# Altium schematic symbol library ST_bluetooth.SchLib: 1 symbol
Pins are listed as number, name and electrical type; pins without a type are passive.

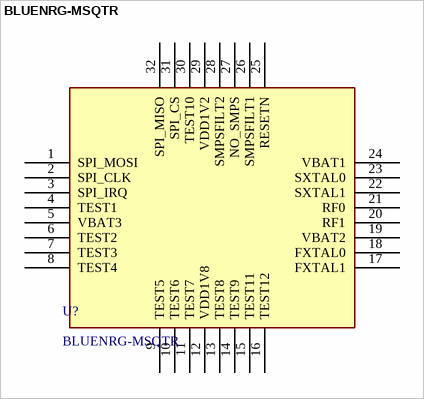
[diagram p0: symbol BLUENRG-MSQTR]

## BLUENRG-MSQTR
designator U?
IC RF TXRX+MCU BLUETOOTH 32VFQFN; Manufacturer: STMicroelectronics; Core: ARM Cortex M0; Operating Frequency: 2.4 GHz; Data Bus Width: 32 bit; Program Memory Size: 64 kB; Data RAM Size: 12 kB; Maximum Clock Frequency: 32 MHz; ADC Resolution: No ADC; Operating Supply Voltage: 1.7 V to 3.6 V; Data RAM Type: RAM; Interface Type: SPI; Number of Timers: 1 Timer; Output Power: 8 dBm; Program Memory Type: Flash; Supply Voltage - Max: 3.6 V; Supply Voltage - Min: 1.7 V; Unit Weight: 0.006653 oz; Supplier 1: Digi-Key; Manufacturer Part Number: BLUENRG-MSQTR; Stock 1: 14966; Pricing 1: 1=3.39, 10=3.025, 25=2.7224, 100=2.4805, 250=2.2385, 500=2.0086, 1000=1.925 (USD); Product Category: RF Microcontrollers - MCU; RoHS: True; Maximum Operating Temperature: + 85 C; Package / Case: QFN-32; Mounting Style: SMD/SMT; Packaging: Reel; Brand: STMicroelectronics; Minimum Operating Temperature: - 40 C; Factory Pack Quantity: 3000; ComponentLink1URL: http://www.mouser.com/ds/2/389/bluenrg-ms-954473.pdf?src-supplier=Mouser; ComponentLink1Description: http://www.mouser.com/ds/2/389/bluenrg-ms-954473.pdf?src-supplier=Mouser; ComponentLink2URL: http://www.st.com/st-web-ui/static/active/en/resource/technical/document/datasheet/DM00141263.pdf?src-supplier=Avnet; ComponentLink2Description: http://www.st.com/st-web-ui/static/active/en/resource/technical/document/datasheet/DM00141263.pdf?src-supplier=Avnet; ComponentLink3URL: http://www.st.com/content/ccc/resource/technical/document/programming_manual/1c/7e/d3/a6/d0/52/4a/35/DM00141271.pdf/files/DM00141271.pdf/jcr:content/translations/en.DM00141271.pdf?src-supplier=Digi-Key; ComponentLink3Description: http://www.st.com/content/ccc/resource/technical/document/programming_manual/1c/7e/d3/a6/d0/52/4a/35/DM00141271.pdf/files/DM00141271.pdf/jcr:content/translations/en.DM00141271.pdf?src-supplier=Digi-Key; ComponentLink4URL: http://www.farnell.com/datasheets/2581739.pdf?src-supplier=Farnell; ComponentLink4Description: http://www.farnell.com/datasheets/2581739.pdf?src-supplier=Farnell; Supplier Part Number 1: 497-15639-1-ND
pins: 1 SPI_MOSI (power), 2 SPI_CLK (power), 3 SPI_IRQ (power), 4 TEST1 (power), 5 VBAT3 (power), 6 TEST2 (power), 7 TEST3 (power), 8 TEST4 (power), 9 TEST5 (power), 10 TEST6 (power), 11 TEST7 (power), 12 VDD1V8 (power), 13 TEST8 (power), 14 TEST9 (power), 15 TEST11 (power), 16 TEST12 (power), 17 FXTAL1 (power), 18 FXTAL0 (power), 19 VBAT2 (power), 20 RF1 (power), 21 RF0 (power), 22 SXTAL1 (power), 23 SXTAL0 (power), 24 VBAT1 (power), 25 RESETN (power), 26 SMPSFILT1 (power), 27 NO_SMPS (power), 28 SMPSFILT2 (power), 29 VDD1V2 (power), 30 TEST10 (power), 31 SPI_CS (power), 32 SPI_MISO (power)